# Altium footprint library STM32G441KBT6.PcbLib: 3 footprints
Each footprint in its own frame and in the unit in brackets; x right, y up, seen from the top. Pads: shape width x height; smd on the part's side, far side on the other; paste and mask are expansions set on the pad; w line width, h text height; cw(c..) or ccw(c..) is an arc to the next point about the centre after c.
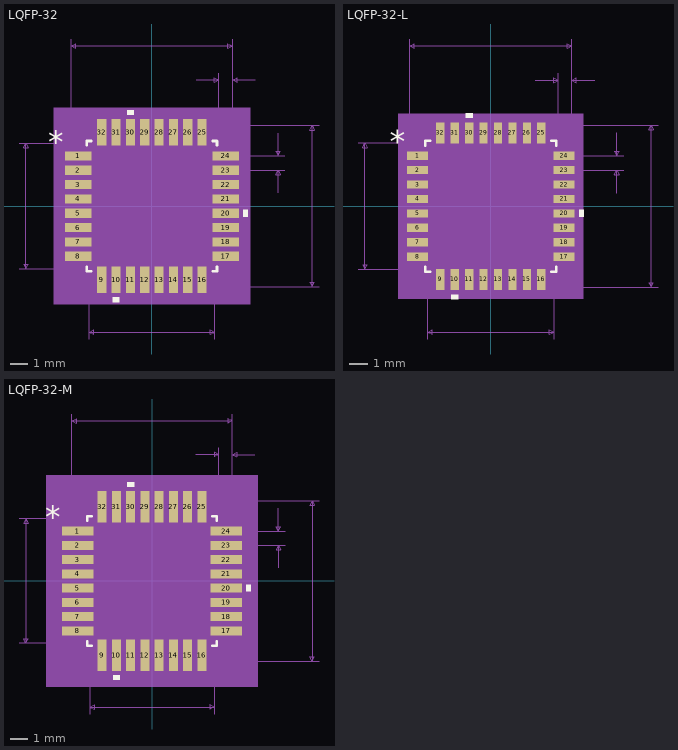
[diagram p0: the footprints below, top view; thin cyan lines are the x and y axes]

## LQFP-32 [mm]
pads (32):
  rect 1.462x0.507 smd paste+0 mask+0: 1(-4.115,2.8) 2(-4.115,2) 3(-4.115,1.2) 4(-4.115,0.4) 5(-4.115,-0.4) 6(-4.115,-1.2) 7(-4.115,-2) 8(-4.115,-2.8) 17(4.115,-2.8) 18(4.115,-2) 19(4.115,-1.2) 20(4.115,-0.4) 21(4.115,0.4) 22(4.115,1.2) 23(4.115,2) 24(4.115,2.8)
  rect 0.507x1.462 smd paste+0 mask+0: 9(-2.8,-4.115) 10(-2,-4.115) 11(-1.2,-4.115) 12(-0.4,-4.115) 13(0.4,-4.115) 14(1.2,-4.115) 15(2,-4.115) 16(2.8,-4.115) 25(2.8,4.115) 26(2,4.115) 27(1.2,4.115) 28(0.4,4.115) 29(-0.4,4.115) 30(-1.2,4.115) 31(-2,4.115) 32(-2.8,4.115)
Top Overlay:
  region: -1.01,5.1 -1.391,5.1 -1.391,5.354 -1.01,5.354
  region: 5.1,-0.209 5.354,-0.209 5.354,-0.59 5.1,-0.59
  region: -1.81,-5.1 -2.191,-5.1 -2.191,-5.354 -1.81,-5.354
  lines w0.152: -3.632,-3.386 -3.632,-3.632 -3.386,-3.632 ; -3.632,3.386 -3.632,3.632 -3.386,3.632 ; 3.386,-3.632 3.632,-3.632 3.632,-3.386 ; 3.386,3.632 3.632,3.632 3.632,3.386
  text "*" at -5.798,2.946 h1.27
Mechanical 5:
  region: 5.481,-5.481 -5.481,-5.481 -5.481,5.481 5.481,5.481
Mechanical 7:
  lines w0.025: -7.417,-3.505 -2.8,-3.505 ; -7.417,3.505 -2.8,3.505 ; -4.496,2.8 -4.496,9.322 ; -3.505,-7.417 -3.505,-2.8 ; 2.464,7.036 3.734,7.036 ; 2.8,-4.496 9.322,-4.496 ; 2.8,4.496 9.322,4.496 ; 3.505,-7.417 3.505,-2.8 ; 3.734,2.8 3.734,7.417 ; 4.115,2 7.417,2 ; 4.115,2.8 7.417,2.8 ; 4.496,7.417 4.496,2.8 4.496,9.322 ; 5.766,7.036 4.496,7.036 ; 7.036,0.73 7.036,2 ; 7.036,4.07 7.036,2.8 ; -7.036,-3.505 -6.909,-3.251 -7.163,-3.251 -7.036,-3.505 ; -7.036,-3.505 -7.036,3.505 ; -7.036,3.505 -6.909,3.251 -7.163,3.251 -7.036,3.505 ; -4.496,8.941 -4.242,8.814 -4.242,9.068 -4.496,8.941 ; -4.496,8.941 4.496,8.941 ; -3.505,-7.036 -3.251,-7.163 -3.251,-6.909 -3.505,-7.036 ; -3.505,-7.036 3.505,-7.036 ; 3.505,-7.036 3.251,-7.163 3.251,-6.909 3.505,-7.036 ; 3.734,7.036 3.48,6.909 3.48,7.163 3.734,7.036 ; 4.496,7.036 4.75,6.909 4.75,7.163 4.496,7.036 ; 4.496,8.941 4.242,8.814 4.242,9.068 4.496,8.941 ; 7.036,2 7.163,1.746 6.909,1.746 7.036,2 ; 7.036,2.8 7.163,3.054 6.909,3.054 7.036,2.8 ; 8.941,-4.496 9.068,-4.242 8.814,-4.242 8.941,-4.496 ; 8.941,-4.496 8.941,4.496 ; 8.941,4.496 9.068,4.242 8.814,4.242 8.941,4.496
  text "0.354in/8.992mm" at 9.449,-0.318 h0.64
  text "0.276in/7.01mm" at -11.989,-0.318 h0.64
  text "0.276in/7.01mm" at -2.222,-8.179 h0.64
  text "0.354in/8.992mm" at -2.381,9.449 h0.64
  text "0.03in/0.762mm" at 1.892,7.544 h0.64
  text "0.031in/0.8mm" at 7.544,2.083 h0.64
  text "Alt 2 Padstyle: b229_152h76" at -8.572,-18.466 h1.27
  text "Alt 1 Padstyle: b152_229h76" at -8.572,-16.942 h1.27
  text "Default Vert Padstyle: r51_146" at -9.525,-12.37 h1.27
  text "Default Horiz Padstyle: r51_146" at -9.842,-10.846 h1.27
Mechanical 13:
  lines w0.025: -3.505,2.235 -2.235,3.505 ; -4.496,-3.029 -3.505,-3.029 -3.505,-2.571 -4.496,-2.571 -4.496,-3.029 ; -4.496,-2.229 -3.505,-2.229 -3.505,-1.771 -4.496,-1.771 -4.496,-2.229 ; -4.496,-1.429 -3.505,-1.429 -3.505,-0.971 -4.496,-0.971 -4.496,-1.429 ; -4.496,-0.629 -3.505,-0.629 -3.505,-0.171 -4.496,-0.171 -4.496,-0.629 ; -4.496,0.171 -3.505,0.171 -3.505,0.629 -4.496,0.629 -4.496,0.171 ; -4.496,0.971 -3.505,0.971 -3.505,1.429 -4.496,1.429 -4.496,0.971 ; -4.496,1.771 -3.505,1.771 -3.505,2.229 -4.496,2.229 -4.496,1.771 ; -4.496,2.571 -3.505,2.571 -3.505,3.029 -4.496,3.029 -4.496,2.571 ; -3.505,-3.505 -3.505,3.505 3.505,3.505 3.505,-3.505 -3.505,-3.505 ; -3.029,-4.496 -2.571,-4.496 -2.571,-3.505 -3.029,-3.505 -3.029,-4.496 ; -3.029,3.505 -3.029,4.496 -2.571,4.496 -2.571,3.505 -3.029,3.505 ; -2.229,-4.496 -1.771,-4.496 -1.771,-3.505 -2.229,-3.505 -2.229,-4.496 ; -2.229,3.505 -2.229,4.496 -1.771,4.496 -1.771,3.505 -2.229,3.505 ; -1.429,-4.496 -0.971,-4.496 -0.971,-3.505 -1.429,-3.505 -1.429,-4.496 ; -1.429,3.505 -1.429,4.496 -0.971,4.496 -0.971,3.505 -1.429,3.505 ; -0.629,-4.496 -0.171,-4.496 -0.171,-3.505 -0.629,-3.505 -0.629,-4.496 ; -0.629,3.505 -0.629,4.496 -0.171,4.496 -0.171,3.505 -0.629,3.505 ; 0.171,-4.496 0.629,-4.496 0.629,-3.505 0.171,-3.505 0.171,-4.496 ; 0.171,3.505 0.171,4.496 0.629,4.496 0.629,3.505 0.171,3.505 ; 0.971,-4.496 1.429,-4.496 1.429,-3.505 0.971,-3.505 0.971,-4.496 ; 0.971,3.505 0.971,4.496 1.429,4.496 1.429,3.505 0.971,3.505 ; 1.771,-4.496 2.229,-4.496 2.229,-3.505 1.771,-3.505 1.771,-4.496 ; 1.771,3.505 1.771,4.496 2.229,4.496 2.229,3.505 1.771,3.505 ; 2.571,-4.496 3.029,-4.496 3.029,-3.505 2.571,-3.505 2.571,-4.496 ; 2.571,3.505 2.571,4.496 3.029,4.496 3.029,3.505 2.571,3.505 ; 3.505,-3.029 4.496,-3.029 4.496,-2.571 3.505,-2.571 3.505,-3.029 ; 3.505,-2.229 4.496,-2.229 4.496,-1.771 3.505,-1.771 3.505,-2.229 ; 3.505,-1.429 4.496,-1.429 4.496,-0.971 3.505,-0.971 3.505,-1.429 ; 3.505,-0.629 4.496,-0.629 4.496,-0.171 3.505,-0.171 3.505,-0.629 ; 3.505,0.171 4.496,0.171 4.496,0.629 3.505,0.629 3.505,0.171 ; 3.505,0.971 4.496,0.971 4.496,1.429 3.505,1.429 3.505,0.971 ; 3.505,1.771 4.496,1.771 4.496,2.229 3.505,2.229 3.505,1.771 ; 3.505,2.571 4.496,2.571 4.496,3.029 3.505,3.029 3.505,2.571
  text "*" at -3.442,2.565 h1.27
Mechanical 15:
  region: -3.308,-3.759 -3.759,-3.759 -3.759,-3.308 -5.1,-3.308 -5.1,3.308 -3.759,3.308 -3.759,3.759 -3.308,3.759 -3.308,5.1 3.308,5.1 3.308,3.759 3.759,3.759 3.759,3.308 5.1,3.308 5.1,-3.308 3.759,-3.308 3.759,-3.759 3.308,-3.759 3.308,-5.1 -3.308,-5.1
  lines w0.152: -5.1,-3.308 -5.1,3.308 -3.759,3.308 -3.759,3.759 -3.308,3.759 -3.308,5.1 3.308,5.1 3.308,3.759 3.759,3.759 3.759,3.308 5.1,3.308 5.1,-3.308 3.759,-3.308 3.759,-3.759 3.308,-3.759 3.308,-5.1 -3.308,-5.1 -3.308,-3.759 -3.759,-3.759 -3.759,-3.308 -5.1,-3.308
3D body "LQFP-32.step": height 1.6, standoff 0, extent -4.496,-4.496 4.496,4.496

## LQFP-32-L [mm]
pads (32):
  rect 1.162x0.457 smd paste+0 mask+0: 1(-4.065,2.8) 2(-4.065,2) 3(-4.065,1.2) 4(-4.065,0.4) 5(-4.065,-0.4) 6(-4.065,-1.2) 7(-4.065,-2) 8(-4.065,-2.8) 17(4.065,-2.8) 18(4.065,-2) 19(4.065,-1.2) 20(4.065,-0.4) 21(4.065,0.4) 22(4.065,1.2) 23(4.065,2) 24(4.065,2.8)
  rect 0.457x1.162 smd paste+0 mask+0: 9(-2.8,-4.065) 10(-2,-4.065) 11(-1.2,-4.065) 12(-0.4,-4.065) 13(0.4,-4.065) 14(1.2,-4.065) 15(2,-4.065) 16(2.8,-4.065) 25(2.8,4.065) 26(2,4.065) 27(1.2,4.065) 28(0.4,4.065) 29(-0.4,4.065) 30(-1.2,4.065) 31(-2,4.065) 32(-2.8,4.065)
Top Overlay:
  region: -1.01,4.9 -1.391,4.9 -1.391,5.154 -1.01,5.154
  region: 4.9,-0.209 5.154,-0.209 5.154,-0.59 4.9,-0.59
  region: -1.81,-4.9 -2.191,-4.9 -2.191,-5.154 -1.81,-5.154
  lines w0.152: -3.632,-3.361 -3.632,-3.632 -3.361,-3.632 ; -3.632,3.361 -3.632,3.632 -3.361,3.632 ; 3.361,-3.632 3.632,-3.632 3.632,-3.361 ; 3.361,3.632 3.632,3.632 3.632,3.361
  text "*" at -5.598,2.946 h1.27
Mechanical 5:
  region: 5.128,-5.128 -5.128,-5.128 -5.128,5.128 5.128,5.128
Mechanical 7:
  lines w0.025: -7.367,-3.505 -2.8,-3.505 ; -7.367,3.505 -2.8,3.505 ; -4.496,2.8 -4.496,9.272 ; -3.505,-7.367 -3.505,-2.8 ; 2.464,6.986 3.734,6.986 ; 2.8,-4.496 9.272,-4.496 ; 2.8,4.496 9.272,4.496 ; 3.505,-7.367 3.505,-2.8 ; 3.734,2.8 3.734,7.367 ; 4.065,2 7.367,2 ; 4.065,2.8 7.367,2.8 ; 4.496,7.367 4.496,2.8 4.496,9.272 ; 5.766,6.986 4.496,6.986 ; 6.986,0.73 6.986,2 ; 6.986,4.07 6.986,2.8 ; -6.986,-3.505 -6.859,-3.251 -7.113,-3.251 -6.986,-3.505 ; -6.986,-3.505 -6.986,3.505 ; -6.986,3.505 -6.859,3.251 -7.113,3.251 -6.986,3.505 ; -4.496,8.891 -4.242,8.764 -4.242,9.018 -4.496,8.891 ; -4.496,8.891 4.496,8.891 ; -3.505,-6.986 -3.251,-7.113 -3.251,-6.859 -3.505,-6.986 ; -3.505,-6.986 3.505,-6.986 ; 3.505,-6.986 3.251,-7.113 3.251,-6.859 3.505,-6.986 ; 3.734,6.986 3.48,6.859 3.48,7.113 3.734,6.986 ; 4.496,6.986 4.75,6.859 4.75,7.113 4.496,6.986 ; 4.496,8.891 4.242,8.764 4.242,9.018 4.496,8.891 ; 6.986,2 7.113,1.746 6.859,1.746 6.986,2 ; 6.986,2.8 7.113,3.054 6.859,3.054 6.986,2.8 ; 8.891,-4.496 9.018,-4.242 8.764,-4.242 8.891,-4.496 ; 8.891,-4.496 8.891,4.496 ; 8.891,4.496 9.018,4.242 8.764,4.242 8.891,4.496
  text "0.354in/8.992mm" at 9.399,-0.318 h0.64
  text "0.276in/7.01mm" at -11.939,-0.318 h0.64
  text "0.276in/7.01mm" at -2.222,-8.129 h0.64
  text "0.354in/8.992mm" at -2.381,9.399 h0.64
  text "0.03in/0.762mm" at 1.892,7.494 h0.64
  text "0.031in/0.8mm" at 7.494,2.083 h0.64
  text "Alt 2 Padstyle: b229_152h76" at -8.572,-18.416 h1.27
  text "Alt 1 Padstyle: b152_229h76" at -8.572,-16.892 h1.27
  text "Default Vert Padstyle: r46_116" at -9.525,-12.32 h1.27
  text "Default Horiz Padstyle: r46_116" at -9.842,-10.796 h1.27
Mechanical 13:
  lines w0.025: -3.505,2.235 -2.235,3.505 ; -4.496,-3.029 -3.505,-3.029 -3.505,-2.571 -4.496,-2.571 -4.496,-3.029 ; -4.496,-2.229 -3.505,-2.229 -3.505,-1.771 -4.496,-1.771 -4.496,-2.229 ; -4.496,-1.429 -3.505,-1.429 -3.505,-0.971 -4.496,-0.971 -4.496,-1.429 ; -4.496,-0.629 -3.505,-0.629 -3.505,-0.171 -4.496,-0.171 -4.496,-0.629 ; -4.496,0.171 -3.505,0.171 -3.505,0.629 -4.496,0.629 -4.496,0.171 ; -4.496,0.971 -3.505,0.971 -3.505,1.429 -4.496,1.429 -4.496,0.971 ; -4.496,1.771 -3.505,1.771 -3.505,2.229 -4.496,2.229 -4.496,1.771 ; -4.496,2.571 -3.505,2.571 -3.505,3.029 -4.496,3.029 -4.496,2.571 ; -3.505,-3.505 -3.505,3.505 3.505,3.505 3.505,-3.505 -3.505,-3.505 ; -3.029,-4.496 -2.571,-4.496 -2.571,-3.505 -3.029,-3.505 -3.029,-4.496 ; -3.029,3.505 -3.029,4.496 -2.571,4.496 -2.571,3.505 -3.029,3.505 ; -2.229,-4.496 -1.771,-4.496 -1.771,-3.505 -2.229,-3.505 -2.229,-4.496 ; -2.229,3.505 -2.229,4.496 -1.771,4.496 -1.771,3.505 -2.229,3.505 ; -1.429,-4.496 -0.971,-4.496 -0.971,-3.505 -1.429,-3.505 -1.429,-4.496 ; -1.429,3.505 -1.429,4.496 -0.971,4.496 -0.971,3.505 -1.429,3.505 ; -0.629,-4.496 -0.171,-4.496 -0.171,-3.505 -0.629,-3.505 -0.629,-4.496 ; -0.629,3.505 -0.629,4.496 -0.171,4.496 -0.171,3.505 -0.629,3.505 ; 0.171,-4.496 0.629,-4.496 0.629,-3.505 0.171,-3.505 0.171,-4.496 ; 0.171,3.505 0.171,4.496 0.629,4.496 0.629,3.505 0.171,3.505 ; 0.971,-4.496 1.429,-4.496 1.429,-3.505 0.971,-3.505 0.971,-4.496 ; 0.971,3.505 0.971,4.496 1.429,4.496 1.429,3.505 0.971,3.505 ; 1.771,-4.496 2.229,-4.496 2.229,-3.505 1.771,-3.505 1.771,-4.496 ; 1.771,3.505 1.771,4.496 2.229,4.496 2.229,3.505 1.771,3.505 ; 2.571,-4.496 3.029,-4.496 3.029,-3.505 2.571,-3.505 2.571,-4.496 ; 2.571,3.505 2.571,4.496 3.029,4.496 3.029,3.505 2.571,3.505 ; 3.505,-3.029 4.496,-3.029 4.496,-2.571 3.505,-2.571 3.505,-3.029 ; 3.505,-2.229 4.496,-2.229 4.496,-1.771 3.505,-1.771 3.505,-2.229 ; 3.505,-1.429 4.496,-1.429 4.496,-0.971 3.505,-0.971 3.505,-1.429 ; 3.505,-0.629 4.496,-0.629 4.496,-0.171 3.505,-0.171 3.505,-0.629 ; 3.505,0.171 4.496,0.171 4.496,0.629 3.505,0.629 3.505,0.171 ; 3.505,0.971 4.496,0.971 4.496,1.429 3.505,1.429 3.505,0.971 ; 3.505,1.771 4.496,1.771 4.496,2.229 3.505,2.229 3.505,1.771 ; 3.505,2.571 4.496,2.571 4.496,3.029 3.505,3.029 3.505,2.571
  text "*" at -3.442,2.565 h1.27
Mechanical 15:
  region: -3.13,-3.607 -3.607,-3.607 -3.607,-3.13 -4.747,-3.13 -4.747,3.13 -3.607,3.13 -3.607,3.607 -3.13,3.607 -3.13,4.747 3.13,4.747 3.13,3.607 3.607,3.607 3.607,3.13 4.747,3.13 4.747,-3.13 3.607,-3.13 3.607,-3.607 3.13,-3.607 3.13,-4.747 -3.13,-4.747
  lines w0.152: -4.747,-3.13 -4.747,3.13 -3.607,3.13 -3.607,3.607 -3.13,3.607 -3.13,4.747 3.13,4.747 3.13,3.607 3.607,3.607 3.607,3.13 4.747,3.13 4.747,-3.13 3.607,-3.13 3.607,-3.607 3.13,-3.607 3.13,-4.747 -3.13,-4.747 -3.13,-3.607 -3.607,-3.607 -3.607,-3.13 -4.747,-3.13
3D body "LQFP-32.step": height 1.6, standoff 0, extent -4.496,-4.496 4.496,4.496

## LQFP-32-M [mm]
pads (32):
  rect 1.762x0.507 smd paste+0 mask+0: 1(-4.165,2.8) 2(-4.165,2) 3(-4.165,1.2) 4(-4.165,0.4) 5(-4.165,-0.4) 6(-4.165,-1.2) 7(-4.165,-2) 8(-4.165,-2.8) 17(4.165,-2.8) 18(4.165,-2) 19(4.165,-1.2) 20(4.165,-0.4) 21(4.165,0.4) 22(4.165,1.2) 23(4.165,2) 24(4.165,2.8)
  rect 0.507x1.762 smd paste+0 mask+0: 9(-2.8,-4.165) 10(-2,-4.165) 11(-1.2,-4.165) 12(-0.4,-4.165) 13(0.4,-4.165) 14(1.2,-4.165) 15(2,-4.165) 16(2.8,-4.165) 25(2.8,4.165) 26(2,4.165) 27(1.2,4.165) 28(0.4,4.165) 29(-0.4,4.165) 30(-1.2,4.165) 31(-2,4.165) 32(-2.8,4.165)
Top Overlay:
  region: -1.81,-5.3 -2.191,-5.3 -2.191,-5.554 -1.81,-5.554
  region: 5.3,-0.209 5.554,-0.209 5.554,-0.59 5.3,-0.59
  region: -1.01,5.3 -1.391,5.3 -1.391,5.554 -1.01,5.554
  lines w0.152: -3.632,-3.386 -3.632,-3.632 -3.386,-3.632 ; -3.632,3.386 -3.632,3.632 -3.386,3.632 ; 3.386,-3.632 3.632,-3.632 3.632,-3.386 ; 3.386,3.632 3.632,3.632 3.632,3.386
  text "*" at -5.998,2.946 h1.27
Mechanical 5:
  region: 5.935,-5.935 -5.935,-5.935 -5.935,5.935 5.935,5.935
Mechanical 7:
  lines w0.025: -7.467,-3.505 -2.8,-3.505 ; -7.467,3.505 -2.8,3.505 ; -4.496,2.8 -4.496,9.372 ; -3.505,-7.467 -3.505,-2.8 ; 2.464,7.086 3.734,7.086 ; 2.8,-4.496 9.372,-4.496 ; 2.8,4.496 9.372,4.496 ; 3.505,-7.467 3.505,-2.8 ; 3.734,2.8 3.734,7.467 ; 4.165,2 7.467,2 ; 4.165,2.8 7.467,2.8 ; 4.496,7.467 4.496,2.8 4.496,9.372 ; 5.766,7.086 4.496,7.086 ; 7.086,0.73 7.086,2 ; 7.086,4.07 7.086,2.8 ; -7.086,-3.505 -7.086,3.505 ; -7.086,-3.505 -7.213,-3.251 -6.959,-3.251 -7.086,-3.505 ; -7.086,3.505 -7.213,3.251 -6.959,3.251 -7.086,3.505 ; -4.496,8.991 4.496,8.991 ; -4.496,8.991 -4.242,9.118 -4.242,8.864 -4.496,8.991 ; -3.505,-7.086 3.505,-7.086 ; -3.505,-7.086 -3.251,-6.959 -3.251,-7.213 -3.505,-7.086 ; 3.505,-7.086 3.251,-6.959 3.251,-7.213 3.505,-7.086 ; 3.734,7.086 3.48,7.213 3.48,6.959 3.734,7.086 ; 4.496,7.086 4.75,7.213 4.75,6.959 4.496,7.086 ; 4.496,8.991 4.242,9.118 4.242,8.864 4.496,8.991 ; 7.086,2 6.959,1.746 7.213,1.746 7.086,2 ; 7.086,2.8 6.959,3.054 7.213,3.054 7.086,2.8 ; 8.991,-4.496 8.991,4.496 ; 8.991,-4.496 8.864,-4.242 9.118,-4.242 8.991,-4.496 ; 8.991,4.496 8.864,4.242 9.118,4.242 8.991,4.496
  text "Default Horiz Padstyle: r51_176" at -9.842,-10.896 h1.27
  text "Default Vert Padstyle: r51_176" at -9.525,-12.42 h1.27
  text "Alt 1 Padstyle: b152_229h76" at -8.572,-16.992 h1.27
  text "Alt 2 Padstyle: b229_152h76" at -8.572,-18.516 h1.27
  text "0.031in/0.8mm" at 7.594,2.083 h0.64
  text "0.03in/0.762mm" at 1.892,7.594 h0.64
  text "0.354in/8.992mm" at -2.381,9.499 h0.64
  text "0.276in/7.01mm" at -2.222,-8.229 h0.64
  text "0.276in/7.01mm" at -12.039,-0.318 h0.64
  text "0.354in/8.992mm" at 9.499,-0.318 h0.64
Mechanical 13:
  lines w0.025: -3.505,2.235 -2.235,3.505 ; -3.505,-3.505 3.505,-3.505 ; -3.505,-3.505 -3.505,3.505 ; -3.505,-3.505 -3.505,-3.505 ; -3.505,3.505 3.505,3.505 ; -3.505,3.505 -3.505,3.505 ; 3.505,-3.505 3.505,-3.505 ; 3.505,-3.505 3.505,3.505 ; 3.505,3.505 3.505,3.505 ; -4.496,-3.029 -4.496,-2.571 -3.505,-2.571 -3.505,-3.029 -4.496,-3.029 ; -4.496,-2.229 -4.496,-1.771 -3.505,-1.771 -3.505,-2.229 -4.496,-2.229 ; -4.496,-1.429 -4.496,-0.971 -3.505,-0.971 -3.505,-1.429 -4.496,-1.429 ; -4.496,-0.629 -4.496,-0.171 -3.505,-0.171 -3.505,-0.629 -4.496,-0.629 ; -4.496,0.171 -4.496,0.629 -3.505,0.629 -3.505,0.171 -4.496,0.171 ; -4.496,0.971 -4.496,1.429 -3.505,1.429 -3.505,0.971 -4.496,0.971 ; -4.496,1.771 -4.496,2.229 -3.505,2.229 -3.505,1.771 -4.496,1.771 ; -4.496,2.571 -4.496,3.029 -3.505,3.029 -3.505,2.571 -4.496,2.571 ; -3.029,-4.496 -3.029,-3.505 -2.571,-3.505 -2.571,-4.496 -3.029,-4.496 ; -3.029,3.505 -2.571,3.505 -2.571,4.496 -3.029,4.496 -3.029,3.505 ; -2.229,-4.496 -2.229,-3.505 -1.771,-3.505 -1.771,-4.496 -2.229,-4.496 ; -2.229,3.505 -1.771,3.505 -1.771,4.496 -2.229,4.496 -2.229,3.505 ; -1.429,-4.496 -1.429,-3.505 -0.971,-3.505 -0.971,-4.496 -1.429,-4.496 ; -1.429,3.505 -0.971,3.505 -0.971,4.496 -1.429,4.496 -1.429,3.505 ; -0.629,-4.496 -0.629,-3.505 -0.171,-3.505 -0.171,-4.496 -0.629,-4.496 ; -0.629,3.505 -0.171,3.505 -0.171,4.496 -0.629,4.496 -0.629,3.505 ; 0.171,-4.496 0.171,-3.505 0.629,-3.505 0.629,-4.496 0.171,-4.496 ; 0.171,3.505 0.629,3.505 0.629,4.496 0.171,4.496 0.171,3.505 ; 0.971,-4.496 0.971,-3.505 1.429,-3.505 1.429,-4.496 0.971,-4.496 ; 0.971,3.505 1.429,3.505 1.429,4.496 0.971,4.496 0.971,3.505 ; 1.771,-4.496 1.771,-3.505 2.229,-3.505 2.229,-4.496 1.771,-4.496 ; 1.771,3.505 2.229,3.505 2.229,4.496 1.771,4.496 1.771,3.505 ; 2.571,-4.496 2.571,-3.505 3.029,-3.505 3.029,-4.496 2.571,-4.496 ; 2.571,3.505 3.029,3.505 3.029,4.496 2.571,4.496 2.571,3.505 ; 3.505,-3.029 3.505,-2.571 4.496,-2.571 4.496,-3.029 3.505,-3.029 ; 3.505,-2.229 3.505,-1.771 4.496,-1.771 4.496,-2.229 3.505,-2.229 ; 3.505,-1.429 3.505,-0.971 4.496,-0.971 4.496,-1.429 3.505,-1.429 ; 3.505,-0.629 3.505,-0.171 4.496,-0.171 4.496,-0.629 3.505,-0.629 ; 3.505,0.171 3.505,0.629 4.496,0.629 4.496,0.171 3.505,0.171 ; 3.505,0.971 3.505,1.429 4.496,1.429 4.496,0.971 3.505,0.971 ; 3.505,1.771 3.505,2.229 4.496,2.229 4.496,1.771 3.505,1.771 ; 3.505,2.571 3.505,3.029 4.496,3.029 4.496,2.571 3.505,2.571
  text "*" at -3.442,2.565 h1.27
Mechanical 15:
  region: -3.562,-4.013 -4.013,-4.013 -4.013,-3.562 -5.554,-3.562 -5.554,3.562 -4.013,3.562 -4.013,4.013 -3.562,4.013 -3.562,5.554 3.562,5.554 3.562,4.013 4.013,4.013 4.013,3.562 5.554,3.562 5.554,-3.562 4.013,-3.562 4.013,-4.013 3.562,-4.013 3.562,-5.554 -3.562,-5.554
  lines w0.152: -5.554,-3.562 -4.013,-3.562 -4.013,-4.013 -3.562,-4.013 -3.562,-5.554 3.562,-5.554 3.562,-4.013 4.013,-4.013 4.013,-3.562 5.554,-3.562 5.554,3.562 4.013,3.562 4.013,4.013 3.562,4.013 3.562,5.554 -3.562,5.554 -3.562,4.013 -4.013,4.013 -4.013,3.562 -5.554,3.562 -5.554,-3.562
3D body "LQFP-32.step": height 1.6, standoff 0, extent -4.496,-4.496 4.496,4.496